# Altium footprint library HVB_Library.PcbLib: 24 footprints (part 1 of 2)
Each footprint in its own frame and in the unit in brackets; x right, y up, seen from the top. Pads: shape width x height; smd on the part's side, far side on the other; paste and mask are expansions set on the pad; w line width, h text height; cw(c..) or ccw(c..) is an arc to the next point about the centre after c.
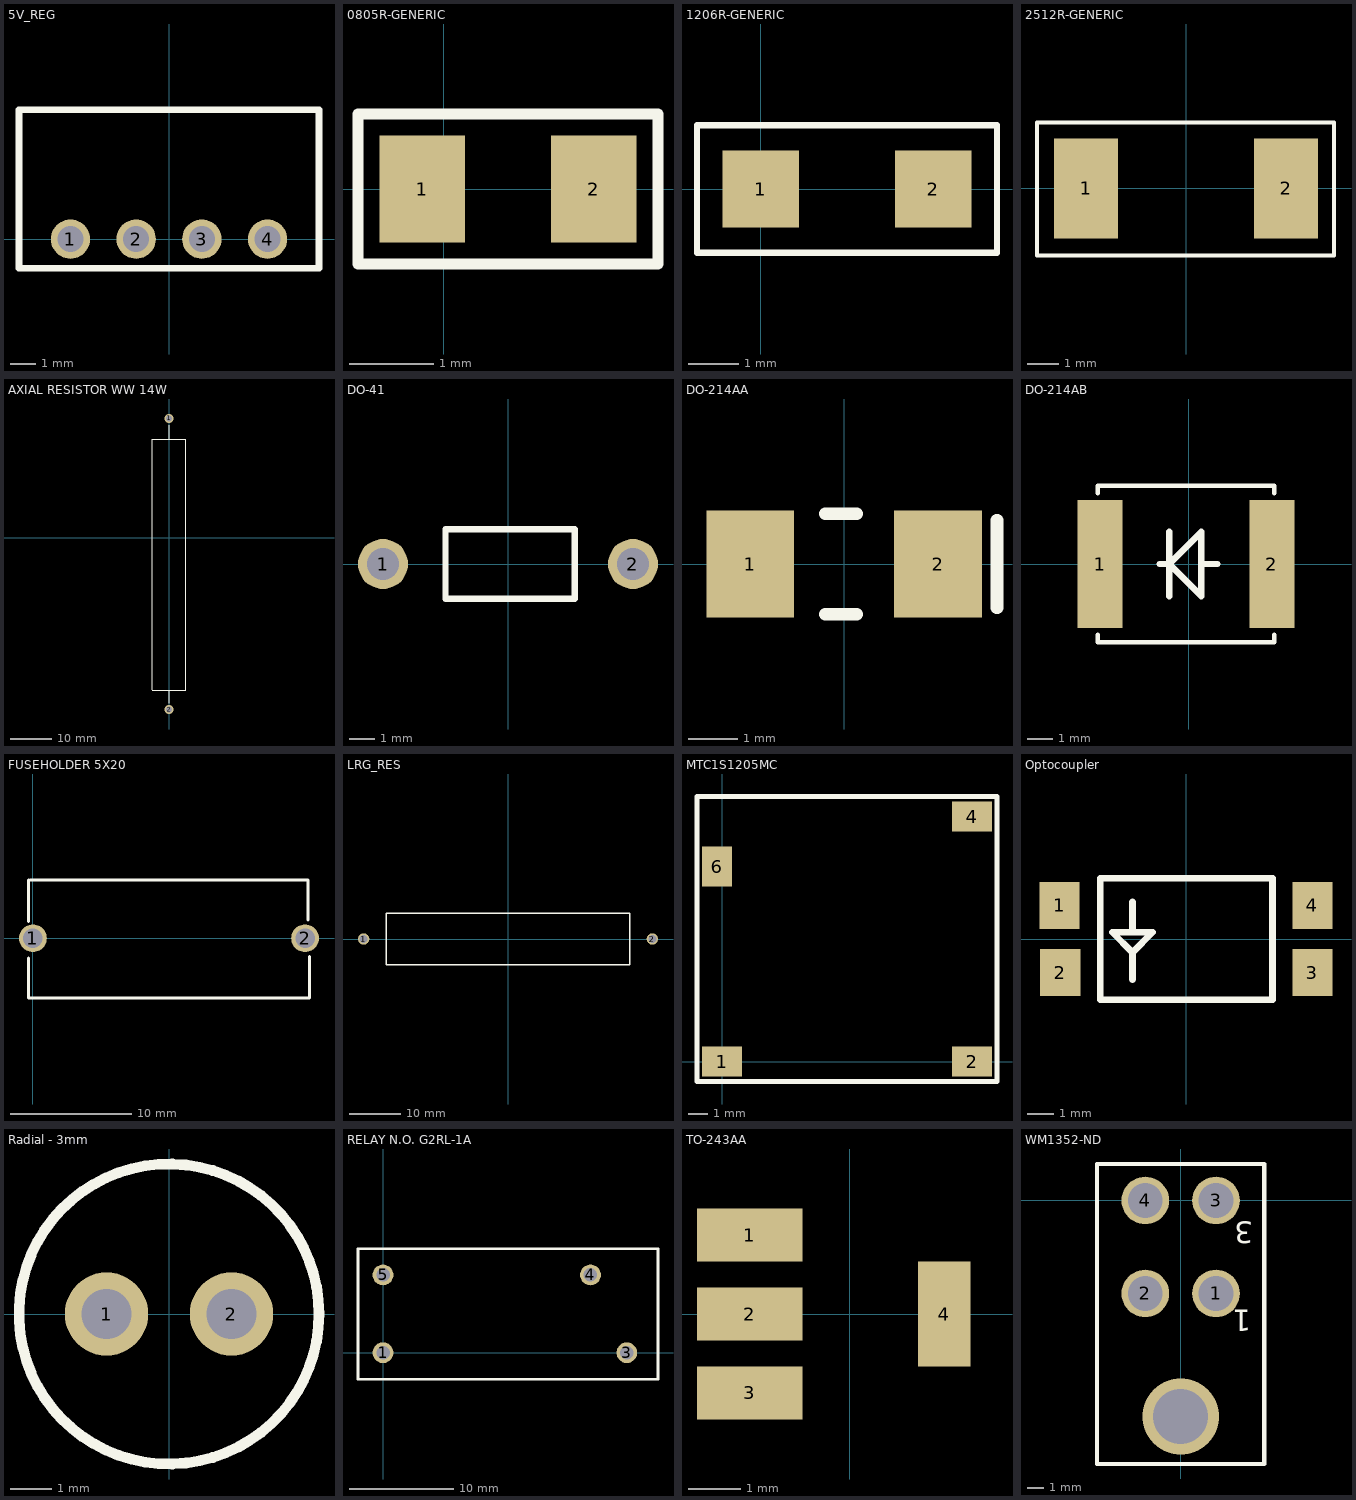
[diagram p0: the footprints below, top view; thin cyan lines are the x and y axes]

## 5V_REG [mil]
pads (4):
  round 60 hole 39.37: 1(-150,0) 2(-50,0) 3(50,0) 4(150,0)
Top Overlay:
  lines w10: -228.35,-44.37 228.35,-44.37 228.35,196.85 -228.35,196.85 -228.35,-44.37
3D body: height 400, standoff 0, extent -228.35,-43.31 228.35,196.85

## 0805R-GENERIC [mil] "RESISTOR 0805"
pads (2):
  rect 40x50 smd: 1(-10,0) 2(70,0)
Top Overlay:
  lines w5: -40,-35 -40,35 100,35 100,-35 -40,-35
3D body: height 27, standoff 26, extent 49.5,2 57,17
3D body: height 27, standoff 26, extent 39.5,2 47,17
3D body: height 25, standoff 0, extent -10,-24 69,24
3D body: height 26, standoff 0, extent -11,-25 5,25
3D body: height 26, standoff 25, extent 5,-22 54,22
3D body: height 26, standoff 0, extent 54,-25 70,25
3D body: height 27, standoff 26, extent 15,-15.5 22.5,-0.5
3D body: height 27, standoff 26, extent -0.5,2 7,17
3D body: height 27, standoff 26, extent 9.5,2 17,17
3D body: height 27, standoff 26, extent 19.5,2 27,17
3D body: height 27, standoff 26, extent 29.5,2 37,17
3D body: height 27, standoff 26, extent 25,-15.5 32.5,-0.5
3D body: height 27, standoff 26, extent 5,-15.5 12.5,-0.5
3D body: height 27, standoff 26, extent 35,-15.5 42.5,-0.5
3D body: height 27, standoff 26, extent 45,-15.5 52.5,-0.5

## 1206R-GENERIC [mil]
pads (2):
  rect 60x60 smd: 1(0,0) 2(135,0)
Top Overlay:
  lines w5: -50,-50 185,-50 185,50 -50,50 -50,-50

## 2512R-GENERIC [mil]
pads (2):
  rect 80x125 smd: 1(-125,0) 2(125,0)
Top Overlay:
  lines w5: -186.32,-84 -186.32,0 -186.32,82.68 185.04,82.68 185.04,-84 -186.32,-84
3D body: height 19, standoff 0, extent -139,-60.5 -115,61
3D body: height 19, standoff 0, extent 112.5,-60.5 136,61
3D body: height 19, standoff 18, extent -115,-55.5 112.5,56.5
3D body: height 18, standoff 0, extent -137,-60.5 134.5,61

## AXIAL RESISTOR WW 14W [mil] "TE C141K0JL"
height 334.65
pads (2):
  round 85 hole 57: 1(0,1135) 2(0,-1630)
Top Overlay:
  lines w10: -157.48,-1445 157.48,-1445 157.48,940 0,940 ; -157.48,-1440 -157.48,940 0,940 ; 0,-1570 0,-1445 ; 0,1070 0,940
3D body: height 474.41, standoff 37.4, extent -217,-1220 220,780

## DO-41 [mm]
pads (2):
  round 2 hole 1.27: 1(-5,0) 2(5,0)
Top Overlay:
  lines w0.254: -2.5,-1.397 -2.5,1.397 2.667,1.397 2.667,-1.397 -2.5,-1.397
3D body: height 2.69, standoff 0, extent -2.6,-1.347 2.6,1.347

## DO-214AA [mil]
pads (2):
  rect 70x85 smd: 1(-74.8,0) 2(74.8,0)
Top Overlay:
  lines w10: -15,-40 10,-40 ; -15,40 10,40 ; 121.81,-35 121.81,35
3D body: height 10, standoff 0, extent -94.49,-78.74 94.49,78.74

## DO-214AB [mil]
pads (2):
  rect 70x200 smd: 1(-137.8,0) 2(129.92,0)
Top Overlay:
  lines w7: -141.73,-110.24 -141.73,-122.05 133.86,-122.05 133.86,-110.24 ; -141.73,110.24 -141.73,122.05 133.86,122.05 133.86,110.24
  lines w10: -45,0 -30,0 ; -30,-50 -30,50 ; 20,0 45,0 ; -30,0 20,50 20,-50 -30,0
3D body: height 98.43, standoff 0, extent -145.67,-120 137.8,120

## FUSEHOLDER 5X20 [mm]
pads (2):
  round 2.3 hole 1.6: 1(0,0) 2(22.5,0)
Top Overlay:
  lines w0.254: -0.374,-1.651 -0.374,-4.953 22.86,-4.953 22.86,-1.524 ; -0.374,1.397 -0.374,4.826 ; -0.254,4.826 22.733,4.826 22.733,1.524
3D body "31-8201.stp": height 11.5, standoff -4, extent -0.374,-4.901 22.726,4.699

## LRG_RES [mm]
pads (2):
  round 2.2 hole 1.524: 1(-28,0) 2(28,0)
Top Overlay:
  lines w0.254: -23.6,-5 23.6,-5 23.6,5 -23.6,5 -23.6,-5
3D body: height 10, standoff 0, extent -23.6,-5 23.6,5

## MTC1S1205MC [mil]
pads (4):
  rect 80x60 smd: 1(0,0) 2(500,0) 4(500,490)
  rect 60x80 smd: 6(-10,390)
Top Overlay:
  lines w10: -50,-40 -50,530 550,530 550,-40 -50,-40
  text "." at -85,-10 h60
3D body "mps_dcdc_mtc1_a.step": height 439.65, standoff 0, extent -45,-35 545,525

## Optocoupler [mm]
pads (4):
  rect 1.52x1.78 smd: 1(-4.78,1.27) 2(-4.76,-1.27) 3(4.76,-1.27) 4(4.76,1.27)
Top Overlay:
  lines w0.254: -2.032,-1.524 -2.032,-0.508 ; -2.032,0.254 -2.032,1.397 ; -2.032,-0.508 -1.27,0.254 -2.794,0.254 -2.032,-0.508 ; -3.25,-2.29 -3.25,2.29 3.25,2.29 3.25,-2.29 -3.25,-2.29
  text "." at -4.826,2.667 h1.52
3D body: height 4.5, standoff 0, extent -3.302,-2.286 3.302,2.286

## Radial - 3mm [mm]
pads (2):
  round 2 hole 1.2: 1(-1.5,0) 2(1.5,0)
Top Overlay:
  circle w0.254: c0,0 r3.6
3D body: height 8.5, standoff 0, extent -3.6,-3.597 3.6,3.597

## RELAY N.O. G2RL-1A [mm]
pads (4):
  round 2 hole 1.3: 1(0,0) 3(23.5,0) 4(20,7.5) 5(0,7.5)
Top Overlay:
  lines w0.254: -2.413,-2.567 26.508,-2.567 26.508,10.033 -2.413,10.033 -2.413,-2.567
3D body "G2RL_1A.step": height 16.21, standoff -2.99, extent -2.4,-2.6 26.6,10.1

## TO-243AA [mm]
pads (4):
  rect 2x1 smd: 1(-1.9,1.5) 2(-1.9,0) 3(-1.9,-1.5)
  rect 1x2 smd: 4(1.8,0)
3D body: height 1.6, standoff 0, extent -1.3,-2.3 1.3,2.3

## WM1352-ND [mil]
pads (4):
  round 111 hole 81: 1(82.5,-217) 2(-82.5,-217) 3(82.5,0) 4(-82.5,0)
via 0,-504 diameter 178 hole 128
Top Overlay:
  lines w10: -195,-615 195,-615 195,85 -195,85 -195,-615
  text "1" at 165,-255 h50
  text "3" at 170,-50 h50
3D body "039301040.stp": height 448.82, standoff -141.73, extent -184.25,-767.41 209.45,17.43